# Altium footprint library FPGA_MG1.PcbLib: 42 footprints (part 2 of 3)
Each footprint in its own frame and in the unit in brackets; x right, y up, seen from the top. Pads: shape width x height; smd on the part's side, far side on the other; paste and mask are expansions set on the pad; w line width, h text height; cw(c..) or ccw(c..) is an arc to the next point about the centre after c.
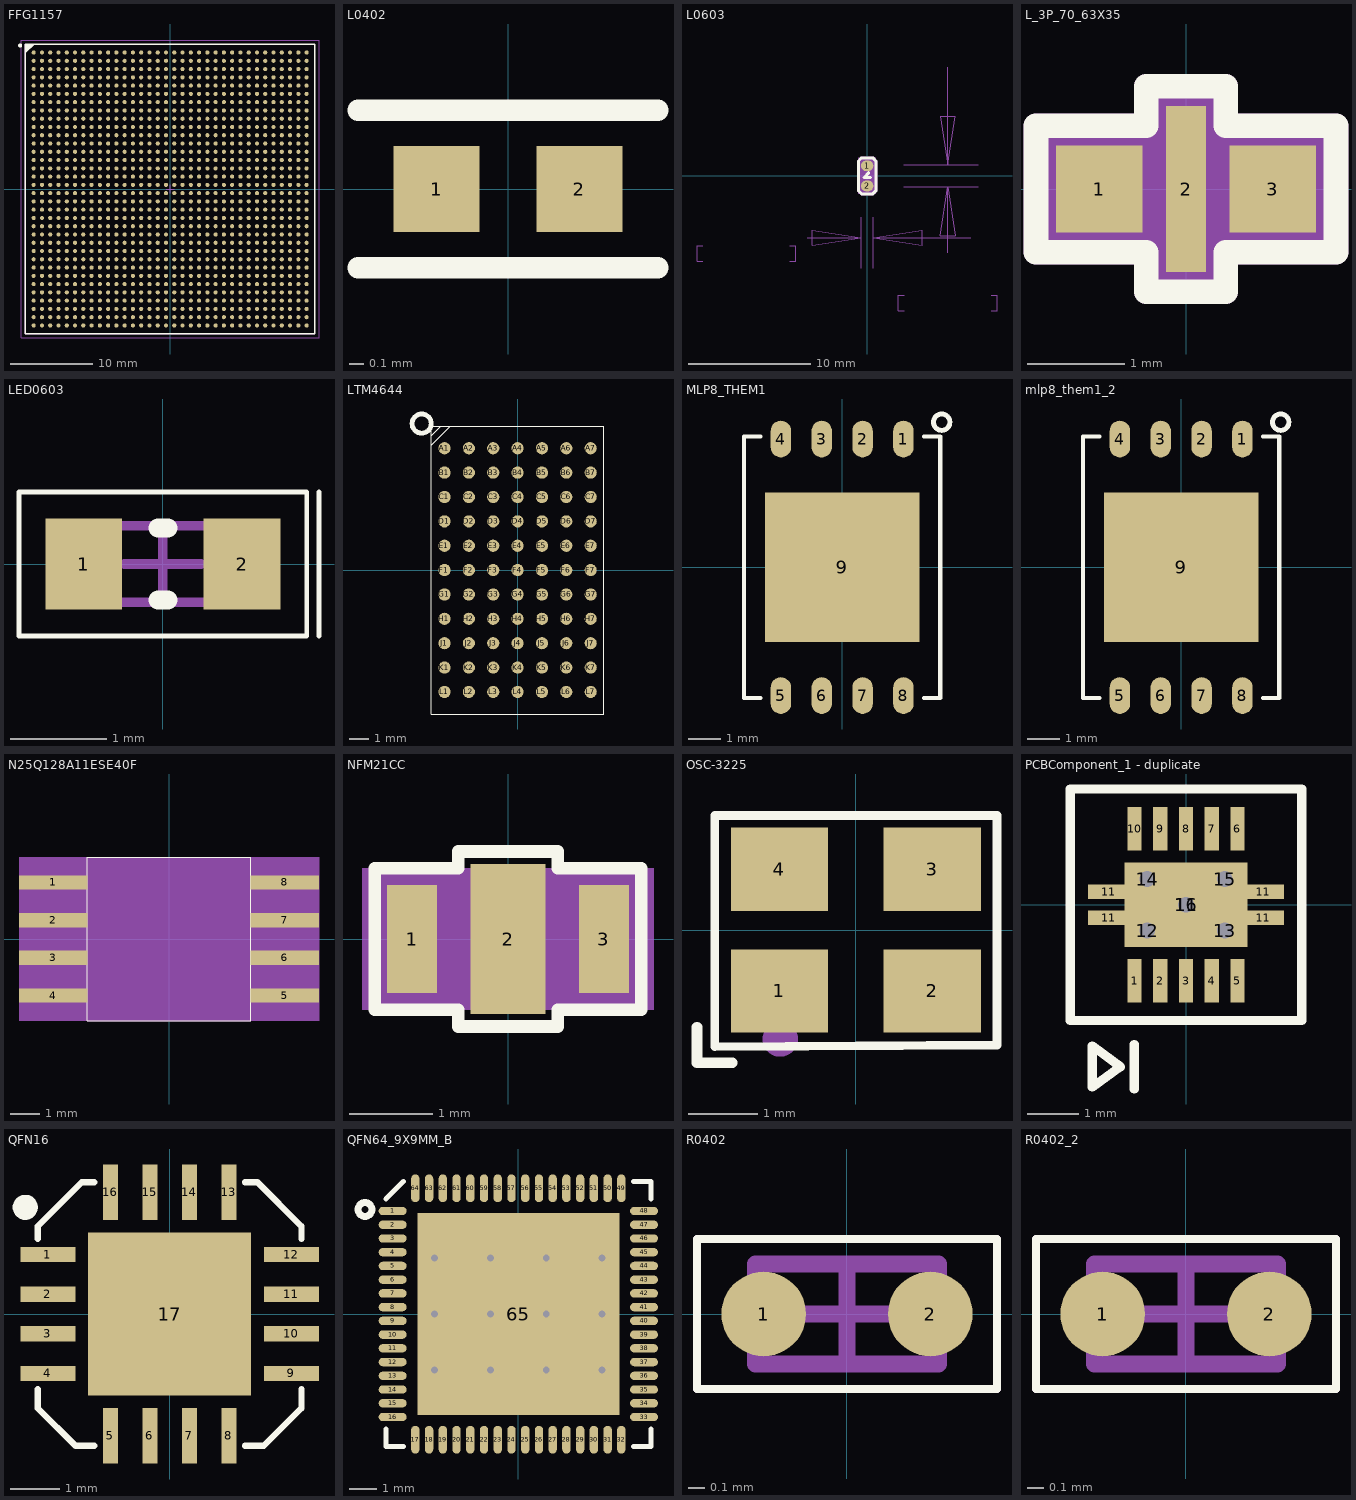
[diagram p1: the footprints below, top view; thin cyan lines are the x and y axes]

## FFG1157 [mm] "BGA, 1156-Balls, Body 35x35mm, Pitch 1.0mm"
height 3.35
pads (1156):
  round 0.5 smd: A1(-16.5,16.5) A2(-15.5,16.5) A3(-14.5,16.5) A4(-13.5,16.5) A5(-12.5,16.5) A6(-11.5,16.5) A7(-10.5,16.5) A8(-9.5,16.5) A9(-8.5,16.5) A10(-7.5,16.5) A11(-6.5,16.5) A12(-5.5,16.5) A13(-4.5,16.5) A14(-3.5,16.5) A15(-2.5,16.5) A16(-1.5,16.5) A17(-0.5,16.5) A18(0.5,16.5) A19(1.5,16.5) A20(2.5,16.5) A21(3.5,16.5) A22(4.5,16.5) A23(5.5,16.5) A24(6.5,16.5) A25(7.5,16.5) A26(8.5,16.5) A27(9.5,16.5) A28(10.5,16.5) A29(11.5,16.5) A30(12.5,16.5) A31(13.5,16.5) A32(14.5,16.5) A33(15.5,16.5) A34(16.5,16.5) AA1(-16.5,-3.5) AA2(-15.5,-3.5) AA3(-14.5,-3.5) AA4(-13.5,-3.5) AA5(-12.5,-3.5) AA6(-11.5,-3.5) AA7(-10.5,-3.5) AA8(-9.5,-3.5) AA9(-8.5,-3.5) AA10(-7.5,-3.5) AA11(-6.5,-3.5) AA12(-5.5,-3.5) AA13(-4.5,-3.5) AA14(-3.5,-3.5) AA15(-2.5,-3.5) AA16(-1.5,-3.5) AA17(-0.5,-3.5) AA18(0.5,-3.5) AA19(1.5,-3.5) AA20(2.5,-3.5) AA21(3.5,-3.5) AA22(4.5,-3.5) AA23(5.5,-3.5) AA24(6.5,-3.5) AA25(7.5,-3.5) AA26(8.5,-3.5) AA27(9.5,-3.5) AA28(10.5,-3.5) AA29(11.5,-3.5) AA30(12.5,-3.5) AA31(13.5,-3.5) AA32(14.5,-3.5) AA33(15.5,-3.5) AA34(16.5,-3.5) AB1(-16.5,-4.5) AB2(-15.5,-4.5) AB3(-14.5,-4.5) AB4(-13.5,-4.5) AB5(-12.5,-4.5) AB6(-11.5,-4.5) AB7(-10.5,-4.5) AB8(-9.5,-4.5) AB9(-8.5,-4.5) AB10(-7.5,-4.5) AB11(-6.5,-4.5) AB12(-5.5,-4.5) AB13(-4.5,-4.5) AB14(-3.5,-4.5) AB15(-2.5,-4.5) AB16(-1.5,-4.5) AB17(-0.5,-4.5) AB18(0.5,-4.5) AB19(1.5,-4.5) AB20(2.5,-4.5) AB21(3.5,-4.5) AB22(4.5,-4.5) AB23(5.5,-4.5) AB24(6.5,-4.5) AB25(7.5,-4.5) AB26(8.5,-4.5) AB27(9.5,-4.5) AB28(10.5,-4.5) AB29(11.5,-4.5) AB30(12.5,-4.5) AB31(13.5,-4.5) AB32(14.5,-4.5) AB33(15.5,-4.5) AB34(16.5,-4.5) AC1(-16.5,-5.5) AC2(-15.5,-5.5) AC3(-14.5,-5.5) AC4(-13.5,-5.5) AC5(-12.5,-5.5) AC6(-11.5,-5.5) AC7(-10.5,-5.5) AC8(-9.5,-5.5) AC9(-8.5,-5.5) AC10(-7.5,-5.5) AC11(-6.5,-5.5) AC12(-5.5,-5.5) AC13(-4.5,-5.5) AC14(-3.5,-5.5) AC15(-2.5,-5.5) AC16(-1.5,-5.5) AC17(-0.5,-5.5) AC18(0.5,-5.5) AC19(1.5,-5.5) AC20(2.5,-5.5) AC21(3.5,-5.5) AC22(4.5,-5.5) AC23(5.5,-5.5) AC24(6.5,-5.5) AC25(7.5,-5.5) AC26(8.5,-5.5) AC27(9.5,-5.5) AC28(10.5,-5.5) AC29(11.5,-5.5) AC30(12.5,-5.5) AC31(13.5,-5.5) AC32(14.5,-5.5) AC33(15.5,-5.5) AC34(16.5,-5.5) AD1(-16.5,-6.5) AD2(-15.5,-6.5) AD3(-14.5,-6.5) AD4(-13.5,-6.5) AD5(-12.5,-6.5) AD6(-11.5,-6.5) AD7(-10.5,-6.5) AD8(-9.5,-6.5) AD9(-8.5,-6.5) AD10(-7.5,-6.5) AD11(-6.5,-6.5) AD12(-5.5,-6.5) AD13(-4.5,-6.5) AD14(-3.5,-6.5) AD15(-2.5,-6.5) AD16(-1.5,-6.5) AD17(-0.5,-6.5) AD18(0.5,-6.5) AD19(1.5,-6.5) AD20(2.5,-6.5) AD21(3.5,-6.5) AD22(4.5,-6.5) AD23(5.5,-6.5) AD24(6.5,-6.5) AD25(7.5,-6.5) AD26(8.5,-6.5) AD27(9.5,-6.5) AD28(10.5,-6.5) AD29(11.5,-6.5) AD30(12.5,-6.5) AD31(13.5,-6.5) AD32(14.5,-6.5) AD33(15.5,-6.5) AD34(16.5,-6.5) AE1(-16.5,-7.5) AE2(-15.5,-7.5) AE3(-14.5,-7.5) AE4(-13.5,-7.5) AE5(-12.5,-7.5) AE6(-11.5,-7.5) AE7(-10.5,-7.5) AE8(-9.5,-7.5) AE9(-8.5,-7.5) AE10(-7.5,-7.5) AE11(-6.5,-7.5) AE12(-5.5,-7.5) AE13(-4.5,-7.5) AE14(-3.5,-7.5) AE15(-2.5,-7.5) AE16(-1.5,-7.5) AE17(-0.5,-7.5) AE18(0.5,-7.5) AE19(1.5,-7.5) AE20(2.5,-7.5) AE21(3.5,-7.5) AE22(4.5,-7.5) AE23(5.5,-7.5) AE24(6.5,-7.5) AE25(7.5,-7.5) AE26(8.5,-7.5) AE27(9.5,-7.5) AE28(10.5,-7.5) AE29(11.5,-7.5) AE30(12.5,-7.5) AE31(13.5,-7.5) AE32(14.5,-7.5) AE33(15.5,-7.5) AE34(16.5,-7.5) AF1(-16.5,-8.5) AF2(-15.5,-8.5) AF3(-14.5,-8.5) AF4(-13.5,-8.5) AF5(-12.5,-8.5) AF6(-11.5,-8.5) AF7(-10.5,-8.5) AF8(-9.5,-8.5) AF9(-8.5,-8.5) AF10(-7.5,-8.5) AF11(-6.5,-8.5) AF12(-5.5,-8.5) AF13(-4.5,-8.5) AF14(-3.5,-8.5) AF15(-2.5,-8.5) AF16(-1.5,-8.5) AF17(-0.5,-8.5) AF18(0.5,-8.5) AF19(1.5,-8.5) AF20(2.5,-8.5) AF21(3.5,-8.5) AF22(4.5,-8.5) AF23(5.5,-8.5) AF24(6.5,-8.5) AF25(7.5,-8.5) AF26(8.5,-8.5) AF27(9.5,-8.5) AF28(10.5,-8.5) AF29(11.5,-8.5) AF30(12.5,-8.5) AF31(13.5,-8.5) AF32(14.5,-8.5) AF33(15.5,-8.5) AF34(16.5,-8.5) AG1(-16.5,-9.5) AG2(-15.5,-9.5) AG3(-14.5,-9.5) AG4(-13.5,-9.5) AG5(-12.5,-9.5) AG6(-11.5,-9.5) AG7(-10.5,-9.5) AG8(-9.5,-9.5) AG9(-8.5,-9.5) AG10(-7.5,-9.5) AG11(-6.5,-9.5) AG12(-5.5,-9.5) AG13(-4.5,-9.5) AG14(-3.5,-9.5) AG15(-2.5,-9.5) AG16(-1.5,-9.5) AG17(-0.5,-9.5) AG18(0.5,-9.5) AG19(1.5,-9.5) AG20(2.5,-9.5) AG21(3.5,-9.5) AG22(4.5,-9.5) AG23(5.5,-9.5) AG24(6.5,-9.5) AG25(7.5,-9.5) AG26(8.5,-9.5) AG27(9.5,-9.5) AG28(10.5,-9.5) AG29(11.5,-9.5) AG30(12.5,-9.5) AG31(13.5,-9.5) AG32(14.5,-9.5) AG33(15.5,-9.5) AG34(16.5,-9.5) AH1(-16.5,-10.5) AH2(-15.5,-10.5) AH3(-14.5,-10.5) AH4(-13.5,-10.5) AH5(-12.5,-10.5) AH6(-11.5,-10.5) AH7(-10.5,-10.5) AH8(-9.5,-10.5) AH9(-8.5,-10.5) AH10(-7.5,-10.5) AH11(-6.5,-10.5) AH12(-5.5,-10.5) AH13(-4.5,-10.5) AH14(-3.5,-10.5) AH15(-2.5,-10.5) AH16(-1.5,-10.5) AH17(-0.5,-10.5) AH18(0.5,-10.5) AH19(1.5,-10.5) AH20(2.5,-10.5) AH21(3.5,-10.5) AH22(4.5,-10.5) AH23(5.5,-10.5) AH24(6.5,-10.5) AH25(7.5,-10.5) AH26(8.5,-10.5) AH27(9.5,-10.5) AH28(10.5,-10.5) AH29(11.5,-10.5) AH30(12.5,-10.5) AH31(13.5,-10.5) AH32(14.5,-10.5) AH33(15.5,-10.5) AH34(16.5,-10.5) AJ1(-16.5,-11.5) AJ2(-15.5,-11.5) AJ3(-14.5,-11.5) AJ4(-13.5,-11.5) AJ5(-12.5,-11.5) AJ6(-11.5,-11.5) AJ7(-10.5,-11.5) AJ8(-9.5,-11.5) AJ9(-8.5,-11.5) AJ10(-7.5,-11.5) AJ11(-6.5,-11.5) AJ12(-5.5,-11.5) AJ13(-4.5,-11.5) AJ14(-3.5,-11.5) AJ15(-2.5,-11.5) AJ16(-1.5,-11.5) AJ17(-0.5,-11.5) AJ18(0.5,-11.5) AJ19(1.5,-11.5) AJ20(2.5,-11.5) AJ21(3.5,-11.5) AJ22(4.5,-11.5) AJ23(5.5,-11.5) AJ24(6.5,-11.5) AJ25(7.5,-11.5) AJ26(8.5,-11.5) AJ27(9.5,-11.5) AJ28(10.5,-11.5) AJ29(11.5,-11.5) AJ30(12.5,-11.5) AJ31(13.5,-11.5) AJ32(14.5,-11.5) AJ33(15.5,-11.5) AJ34(16.5,-11.5) AK1(-16.5,-12.5) AK2(-15.5,-12.5) AK3(-14.5,-12.5) AK4(-13.5,-12.5) AK5(-12.5,-12.5) AK6(-11.5,-12.5) AK7(-10.5,-12.5) AK8(-9.5,-12.5) AK9(-8.5,-12.5) AK10(-7.5,-12.5) AK11(-6.5,-12.5) AK12(-5.5,-12.5) AK13(-4.5,-12.5) AK14(-3.5,-12.5) AK15(-2.5,-12.5) AK16(-1.5,-12.5) AK17(-0.5,-12.5) AK18(0.5,-12.5) AK19(1.5,-12.5) AK20(2.5,-12.5) AK21(3.5,-12.5) AK22(4.5,-12.5) AK23(5.5,-12.5) AK24(6.5,-12.5) AK25(7.5,-12.5) AK26(8.5,-12.5) AK27(9.5,-12.5) AK28(10.5,-12.5) AK29(11.5,-12.5) AK30(12.5,-12.5) AK31(13.5,-12.5) AK32(14.5,-12.5) AK33(15.5,-12.5) AK34(16.5,-12.5) AL1(-16.5,-13.5) AL2(-15.5,-13.5) AL3(-14.5,-13.5) AL4(-13.5,-13.5) AL5(-12.5,-13.5) AL6(-11.5,-13.5) AL7(-10.5,-13.5) AL8(-9.5,-13.5) AL9(-8.5,-13.5) AL10(-7.5,-13.5) AL11(-6.5,-13.5) AL12(-5.5,-13.5) AL13(-4.5,-13.5) AL14(-3.5,-13.5) AL15(-2.5,-13.5) AL16(-1.5,-13.5) AL17(-0.5,-13.5) AL18(0.5,-13.5) AL19(1.5,-13.5) AL20(2.5,-13.5) AL21(3.5,-13.5) AL22(4.5,-13.5) AL23(5.5,-13.5) AL24(6.5,-13.5) AL25(7.5,-13.5) AL26(8.5,-13.5) AL27(9.5,-13.5) AL28(10.5,-13.5) AL29(11.5,-13.5) AL30(12.5,-13.5) AL31(13.5,-13.5) AL32(14.5,-13.5) AL33(15.5,-13.5) AL34(16.5,-13.5) AM1(-16.5,-14.5) AM2(-15.5,-14.5) AM3(-14.5,-14.5) AM4(-13.5,-14.5) AM5(-12.5,-14.5) AM6(-11.5,-14.5) AM7(-10.5,-14.5) AM8(-9.5,-14.5) AM9(-8.5,-14.5) AM10(-7.5,-14.5) AM11(-6.5,-14.5) AM12(-5.5,-14.5) AM13(-4.5,-14.5) AM14(-3.5,-14.5) AM15(-2.5,-14.5) AM16(-1.5,-14.5) AM17(-0.5,-14.5) AM18(0.5,-14.5) AM19(1.5,-14.5) AM20(2.5,-14.5) AM21(3.5,-14.5) AM22(4.5,-14.5) AM23(5.5,-14.5) AM24(6.5,-14.5) AM25(7.5,-14.5) AM26(8.5,-14.5) AM27(9.5,-14.5) AM28(10.5,-14.5) AM29(11.5,-14.5) AM30(12.5,-14.5) AM31(13.5,-14.5) AM32(14.5,-14.5) AM33(15.5,-14.5) AM34(16.5,-14.5) AN1(-16.5,-15.5) AN2(-15.5,-15.5) AN3(-14.5,-15.5) AN4(-13.5,-15.5) AN5(-12.5,-15.5) AN6(-11.5,-15.5) AN7(-10.5,-15.5) AN8(-9.5,-15.5) AN9(-8.5,-15.5) AN10(-7.5,-15.5) AN11(-6.5,-15.5) AN12(-5.5,-15.5) AN13(-4.5,-15.5) AN14(-3.5,-15.5) AN15(-2.5,-15.5) AN16(-1.5,-15.5) AN17(-0.5,-15.5) AN18(0.5,-15.5) AN19(1.5,-15.5) AN20(2.5,-15.5) AN21(3.5,-15.5) AN22(4.5,-15.5) AN23(5.5,-15.5) AN24(6.5,-15.5) AN25(7.5,-15.5) AN26(8.5,-15.5) AN27(9.5,-15.5) AN28(10.5,-15.5) AN29(11.5,-15.5) AN30(12.5,-15.5) AN31(13.5,-15.5) AN32(14.5,-15.5) AN33(15.5,-15.5) AN34(16.5,-15.5) AP1(-16.5,-16.5) AP2(-15.5,-16.5) AP3(-14.5,-16.5) AP4(-13.5,-16.5) AP5(-12.5,-16.5) AP6(-11.5,-16.5) AP7(-10.5,-16.5) AP8(-9.5,-16.5) AP9(-8.5,-16.5) AP10(-7.5,-16.5) AP11(-6.5,-16.5) AP12(-5.5,-16.5) AP13(-4.5,-16.5) AP14(-3.5,-16.5) AP15(-2.5,-16.5) AP16(-1.5,-16.5) AP17(-0.5,-16.5) AP18(0.5,-16.5) AP19(1.5,-16.5) AP20(2.5,-16.5) AP21(3.5,-16.5) AP22(4.5,-16.5) AP23(5.5,-16.5) AP24(6.5,-16.5) AP25(7.5,-16.5) AP26(8.5,-16.5) AP27(9.5,-16.5) AP28(10.5,-16.5) AP29(11.5,-16.5) AP30(12.5,-16.5) AP31(13.5,-16.5) AP32(14.5,-16.5) AP33(15.5,-16.5) AP34(16.5,-16.5) B1(-16.5,15.5) B2(-15.5,15.5) B3(-14.5,15.5) B4(-13.5,15.5) B5(-12.5,15.5) B6(-11.5,15.5) B7(-10.5,15.5) B8(-9.5,15.5) B9(-8.5,15.5) B10(-7.5,15.5) B11(-6.5,15.5) B12(-5.5,15.5) B13(-4.5,15.5) B14(-3.5,15.5) B15(-2.5,15.5) B16(-1.5,15.5) B17(-0.5,15.5) B18(0.5,15.5) B19(1.5,15.5) B20(2.5,15.5) B21(3.5,15.5) B22(4.5,15.5) B23(5.5,15.5) B24(6.5,15.5) B25(7.5,15.5) B26(8.5,15.5) B27(9.5,15.5) B28(10.5,15.5) B29(11.5,15.5) B30(12.5,15.5) B31(13.5,15.5) B32(14.5,15.5) B33(15.5,15.5) B34(16.5,15.5) C1(-16.5,14.5) C2(-15.5,14.5) C3(-14.5,14.5) C4(-13.5,14.5) C5(-12.5,14.5) C6(-11.5,14.5) C7(-10.5,14.5) C8(-9.5,14.5) C9(-8.5,14.5) C10(-7.5,14.5) C11(-6.5,14.5) C12(-5.5,14.5) C13(-4.5,14.5) C14(-3.5,14.5) C15(-2.5,14.5) C16(-1.5,14.5) C17(-0.5,14.5) C18(0.5,14.5) C19(1.5,14.5) C20(2.5,14.5) C21(3.5,14.5) C22(4.5,14.5) C23(5.5,14.5) C24(6.5,14.5) C25(7.5,14.5) C26(8.5,14.5) C27(9.5,14.5) C28(10.5,14.5) C29(11.5,14.5) C30(12.5,14.5) C31(13.5,14.5) C32(14.5,14.5) C33(15.5,14.5) C34(16.5,14.5) D1(-16.5,13.5) D2(-15.5,13.5) D3(-14.5,13.5) D4(-13.5,13.5) D5(-12.5,13.5) D6(-11.5,13.5) D7(-10.5,13.5) D8(-9.5,13.5) D9(-8.5,13.5) D10(-7.5,13.5) D11(-6.5,13.5) D12(-5.5,13.5) D13(-4.5,13.5) D14(-3.5,13.5) D15(-2.5,13.5) D16(-1.5,13.5) D17(-0.5,13.5) D18(0.5,13.5) D19(1.5,13.5) D20(2.5,13.5) D21(3.5,13.5) D22(4.5,13.5) D23(5.5,13.5) D24(6.5,13.5) D25(7.5,13.5) D26(8.5,13.5) D27(9.5,13.5) D28(10.5,13.5) D29(11.5,13.5) D30(12.5,13.5) D31(13.5,13.5) D32(14.5,13.5) D33(15.5,13.5) D34(16.5,13.5) E1(-16.5,12.5) E2(-15.5,12.5) E3(-14.5,12.5) E4(-13.5,12.5) E5(-12.5,12.5) E6(-11.5,12.5) E7(-10.5,12.5) E8(-9.5,12.5) E9(-8.5,12.5) E10(-7.5,12.5) E11(-6.5,12.5) E12(-5.5,12.5) E13(-4.5,12.5) E14(-3.5,12.5) E15(-2.5,12.5) E16(-1.5,12.5) E17(-0.5,12.5) E18(0.5,12.5) E19(1.5,12.5) E20(2.5,12.5) E21(3.5,12.5) E22(4.5,12.5) E23(5.5,12.5) E24(6.5,12.5) E25(7.5,12.5) E26(8.5,12.5) E27(9.5,12.5) E28(10.5,12.5) E29(11.5,12.5) E30(12.5,12.5) E31(13.5,12.5) E32(14.5,12.5) E33(15.5,12.5) E34(16.5,12.5) F1(-16.5,11.5) F2(-15.5,11.5) F3(-14.5,11.5) F4(-13.5,11.5) F5(-12.5,11.5) F6(-11.5,11.5) F7(-10.5,11.5) F8(-9.5,11.5) F9(-8.5,11.5) F10(-7.5,11.5) F11(-6.5,11.5) F12(-5.5,11.5) F13(-4.5,11.5) F14(-3.5,11.5) F15(-2.5,11.5) F16(-1.5,11.5) F17(-0.5,11.5) F18(0.5,11.5) F19(1.5,11.5) F20(2.5,11.5) F21(3.5,11.5) F22(4.5,11.5) F23(5.5,11.5) F24(6.5,11.5) F25(7.5,11.5) F26(8.5,11.5) F27(9.5,11.5) F28(10.5,11.5) F29(11.5,11.5) F30(12.5,11.5) F31(13.5,11.5) F32(14.5,11.5) F33(15.5,11.5) F34(16.5,11.5) G1(-16.5,10.5) G2(-15.5,10.5) G3(-14.5,10.5) G4(-13.5,10.5) G5(-12.5,10.5) G6(-11.5,10.5) G7(-10.5,10.5) G8(-9.5,10.5) G9(-8.5,10.5) G10(-7.5,10.5) G11(-6.5,10.5) G12(-5.5,10.5) G13(-4.5,10.5) G14(-3.5,10.5) G15(-2.5,10.5) G16(-1.5,10.5) G17(-0.5,10.5) G18(0.5,10.5) G19(1.5,10.5) G20(2.5,10.5) G21(3.5,10.5) G22(4.5,10.5) G23(5.5,10.5) G24(6.5,10.5) G25(7.5,10.5) G26(8.5,10.5) G27(9.5,10.5) G28(10.5,10.5) G29(11.5,10.5) G30(12.5,10.5) G31(13.5,10.5) G32(14.5,10.5) G33(15.5,10.5) G34(16.5,10.5) H1(-16.5,9.5) H2(-15.5,9.5) H3(-14.5,9.5) H4(-13.5,9.5) H5(-12.5,9.5) H6(-11.5,9.5) H7(-10.5,9.5) H8(-9.5,9.5) H9(-8.5,9.5) H10(-7.5,9.5) H11(-6.5,9.5) H12(-5.5,9.5) H13(-4.5,9.5) H14(-3.5,9.5) H15(-2.5,9.5) H16(-1.5,9.5) H17(-0.5,9.5) H18(0.5,9.5) H19(1.5,9.5) H20(2.5,9.5) H21(3.5,9.5) H22(4.5,9.5) H23(5.5,9.5) H24(6.5,9.5) H25(7.5,9.5) H26(8.5,9.5) H27(9.5,9.5) H28(10.5,9.5) H29(11.5,9.5) H30(12.5,9.5) H31(13.5,9.5) H32(14.5,9.5) H33(15.5,9.5) H34(16.5,9.5) J1(-16.5,8.5) J2(-15.5,8.5) J3(-14.5,8.5) J4(-13.5,8.5) J5(-12.5,8.5) J6(-11.5,8.5) J7(-10.5,8.5) J8(-9.5,8.5) J9(-8.5,8.5) J10(-7.5,8.5) J11(-6.5,8.5) J12(-5.5,8.5) J13(-4.5,8.5) J14(-3.5,8.5) J15(-2.5,8.5) J16(-1.5,8.5) J17(-0.5,8.5) J18(0.5,8.5) J19(1.5,8.5) J20(2.5,8.5) J21(3.5,8.5) J22(4.5,8.5) J23(5.5,8.5) J24(6.5,8.5) J25(7.5,8.5) J26(8.5,8.5) J27(9.5,8.5) J28(10.5,8.5) J29(11.5,8.5) J30(12.5,8.5) J31(13.5,8.5) J32(14.5,8.5) J33(15.5,8.5) J34(16.5,8.5) K1(-16.5,7.5) K2(-15.5,7.5) K3(-14.5,7.5) K4(-13.5,7.5) K5(-12.5,7.5) K6(-11.5,7.5) K7(-10.5,7.5) K8(-9.5,7.5) K9(-8.5,7.5) K10(-7.5,7.5) K11(-6.5,7.5) K12(-5.5,7.5) K13(-4.5,7.5) K14(-3.5,7.5) K15(-2.5,7.5) K16(-1.5,7.5) K17(-0.5,7.5) K18(0.5,7.5) K19(1.5,7.5) K20(2.5,7.5) K21(3.5,7.5) K22(4.5,7.5) K23(5.5,7.5) K24(6.5,7.5) K25(7.5,7.5) K26(8.5,7.5) K27(9.5,7.5) K28(10.5,7.5) K29(11.5,7.5) K30(12.5,7.5) K31(13.5,7.5) K32(14.5,7.5) K33(15.5,7.5) K34(16.5,7.5) L1(-16.5,6.5) L2(-15.5,6.5) L3(-14.5,6.5) L4(-13.5,6.5) L5(-12.5,6.5) L6(-11.5,6.5) L7(-10.5,6.5) L8(-9.5,6.5) L9(-8.5,6.5) L10(-7.5,6.5) L11(-6.5,6.5) L12(-5.5,6.5) L13(-4.5,6.5) L14(-3.5,6.5) L15(-2.5,6.5) L16(-1.5,6.5) L17(-0.5,6.5) L18(0.5,6.5) L19(1.5,6.5) L20(2.5,6.5) L21(3.5,6.5) L22(4.5,6.5) L23(5.5,6.5) L24(6.5,6.5) L25(7.5,6.5) L26(8.5,6.5) L27(9.5,6.5) L28(10.5,6.5) L29(11.5,6.5) L30(12.5,6.5) L31(13.5,6.5) L32(14.5,6.5) L33(15.5,6.5) L34(16.5,6.5) M1(-16.5,5.5) M2(-15.5,5.5) M3(-14.5,5.5) M4(-13.5,5.5) M5(-12.5,5.5) M6(-11.5,5.5) M7(-10.5,5.5) M8(-9.5,5.5) M9(-8.5,5.5) M10(-7.5,5.5) M11(-6.5,5.5) M12(-5.5,5.5) M13(-4.5,5.5) M14(-3.5,5.5) M15(-2.5,5.5) M16(-1.5,5.5) M17(-0.5,5.5) M18(0.5,5.5) M19(1.5,5.5) M20(2.5,5.5) M21(3.5,5.5) M22(4.5,5.5) M23(5.5,5.5) M24(6.5,5.5) M25(7.5,5.5) M26(8.5,5.5) M27(9.5,5.5) M28(10.5,5.5) M29(11.5,5.5) M30(12.5,5.5) M31(13.5,5.5) M32(14.5,5.5) M33(15.5,5.5) M34(16.5,5.5) N1(-16.5,4.5) N2(-15.5,4.5) N3(-14.5,4.5) N4(-13.5,4.5) N5(-12.5,4.5) N6(-11.5,4.5) N7(-10.5,4.5) N8(-9.5,4.5) N9(-8.5,4.5) N10(-7.5,4.5) N11(-6.5,4.5) N12(-5.5,4.5) N13(-4.5,4.5) N14(-3.5,4.5) N15(-2.5,4.5) N16(-1.5,4.5) N17(-0.5,4.5) N18(0.5,4.5) N19(1.5,4.5) N20(2.5,4.5) N21(3.5,4.5) N22(4.5,4.5) N23(5.5,4.5) N24(6.5,4.5) N25(7.5,4.5) N26(8.5,4.5) N27(9.5,4.5) N28(10.5,4.5) N29(11.5,4.5) N30(12.5,4.5) N31(13.5,4.5) N32(14.5,4.5) N33(15.5,4.5) N34(16.5,4.5) P1(-16.5,3.5) P2(-15.5,3.5) P3(-14.5,3.5) P4(-13.5,3.5) P5(-12.5,3.5) P6(-11.5,3.5) P7(-10.5,3.5) P8(-9.5,3.5) P9(-8.5,3.5) P10(-7.5,3.5) P11(-6.5,3.5) P12(-5.5,3.5) P13(-4.5,3.5) P14(-3.5,3.5) P15(-2.5,3.5) P16(-1.5,3.5) P17(-0.5,3.5) P18(0.5,3.5) P19(1.5,3.5) P20(2.5,3.5) P21(3.5,3.5) P22(4.5,3.5) P23(5.5,3.5) P24(6.5,3.5) P25(7.5,3.5) P26(8.5,3.5) P27(9.5,3.5) P28(10.5,3.5) P29(11.5,3.5) P30(12.5,3.5) P31(13.5,3.5) P32(14.5,3.5) P33(15.5,3.5) P34(16.5,3.5) R1(-16.5,2.5) R2(-15.5,2.5) R3(-14.5,2.5) R4(-13.5,2.5) R5(-12.5,2.5) R6(-11.5,2.5) R7(-10.5,2.5) R8(-9.5,2.5) R9(-8.5,2.5) R10(-7.5,2.5) R11(-6.5,2.5) R12(-5.5,2.5) R13(-4.5,2.5) R14(-3.5,2.5) R15(-2.5,2.5) R16(-1.5,2.5) R17(-0.5,2.5) R18(0.5,2.5) R19(1.5,2.5) R20(2.5,2.5) R21(3.5,2.5) R22(4.5,2.5) R23(5.5,2.5) R24(6.5,2.5) R25(7.5,2.5) R26(8.5,2.5) R27(9.5,2.5) R28(10.5,2.5) R29(11.5,2.5) R30(12.5,2.5) R31(13.5,2.5) R32(14.5,2.5) R33(15.5,2.5) R34(16.5,2.5) T1(-16.5,1.5) T2(-15.5,1.5) T3(-14.5,1.5) T4(-13.5,1.5) T5(-12.5,1.5) T6(-11.5,1.5) T7(-10.5,1.5) T8(-9.5,1.5) T9(-8.5,1.5) T10(-7.5,1.5) T11(-6.5,1.5) T12(-5.5,1.5) T13(-4.5,1.5) T14(-3.5,1.5) T15(-2.5,1.5) T16(-1.5,1.5) T17(-0.5,1.5) T18(0.5,1.5) T19(1.5,1.5) T20(2.5,1.5) T21(3.5,1.5) T22(4.5,1.5) T23(5.5,1.5) T24(6.5,1.5) T25(7.5,1.5) T26(8.5,1.5) T27(9.5,1.5) T28(10.5,1.5) T29(11.5,1.5) T30(12.5,1.5) T31(13.5,1.5) T32(14.5,1.5) T33(15.5,1.5) T34(16.5,1.5) U1(-16.5,0.5) U2(-15.5,0.5) U3(-14.5,0.5) U4(-13.5,0.5) U5(-12.5,0.5) U6(-11.5,0.5) U7(-10.5,0.5) U8(-9.5,0.5) U9(-8.5,0.5) U10(-7.5,0.5) U11(-6.5,0.5) U12(-5.5,0.5) U13(-4.5,0.5) U14(-3.5,0.5) U15(-2.5,0.5) U16(-1.5,0.5) U17(-0.5,0.5) U18(0.5,0.5) U19(1.5,0.5) U20(2.5,0.5) U21(3.5,0.5) U22(4.5,0.5) U23(5.5,0.5) U24(6.5,0.5) U25(7.5,0.5) U26(8.5,0.5) U27(9.5,0.5) U28(10.5,0.5) U29(11.5,0.5) U30(12.5,0.5) U31(13.5,0.5) U32(14.5,0.5) U33(15.5,0.5) U34(16.5,0.5) V1(-16.5,-0.5) V2(-15.5,-0.5) V3(-14.5,-0.5) V4(-13.5,-0.5) V5(-12.5,-0.5) V6(-11.5,-0.5) V7(-10.5,-0.5) V8(-9.5,-0.5) V9(-8.5,-0.5) V10(-7.5,-0.5) V11(-6.5,-0.5) V12(-5.5,-0.5) V13(-4.5,-0.5) V14(-3.5,-0.5) V15(-2.5,-0.5) V16(-1.5,-0.5) V17(-0.5,-0.5) V18(0.5,-0.5) V19(1.5,-0.5) V20(2.5,-0.5) V21(3.5,-0.5) V22(4.5,-0.5) V23(5.5,-0.5) V24(6.5,-0.5) V25(7.5,-0.5) V26(8.5,-0.5) V27(9.5,-0.5) V28(10.5,-0.5) V29(11.5,-0.5) V30(12.5,-0.5) V31(13.5,-0.5) V32(14.5,-0.5) V33(15.5,-0.5) V34(16.5,-0.5) W1(-16.5,-1.5) W2(-15.5,-1.5) W3(-14.5,-1.5) W4(-13.5,-1.5) W5(-12.5,-1.5) W6(-11.5,-1.5) W7(-10.5,-1.5) W8(-9.5,-1.5) W9(-8.5,-1.5) W10(-7.5,-1.5) W11(-6.5,-1.5) W12(-5.5,-1.5) W13(-4.5,-1.5) W14(-3.5,-1.5) W15(-2.5,-1.5) W16(-1.5,-1.5) W17(-0.5,-1.5) W18(0.5,-1.5) W19(1.5,-1.5) W20(2.5,-1.5) W21(3.5,-1.5) W22(4.5,-1.5) W23(5.5,-1.5) W24(6.5,-1.5) W25(7.5,-1.5) W26(8.5,-1.5) W27(9.5,-1.5) W28(10.5,-1.5) W29(11.5,-1.5) W30(12.5,-1.5) W31(13.5,-1.5) W32(14.5,-1.5) W33(15.5,-1.5) W34(16.5,-1.5) Y1(-16.5,-2.5) Y2(-15.5,-2.5) Y3(-14.5,-2.5) Y4(-13.5,-2.5) Y5(-12.5,-2.5) Y6(-11.5,-2.5) Y7(-10.5,-2.5) Y8(-9.5,-2.5) Y9(-8.5,-2.5) Y10(-7.5,-2.5) Y11(-6.5,-2.5) Y12(-5.5,-2.5) Y13(-4.5,-2.5) Y14(-3.5,-2.5) Y15(-2.5,-2.5) Y16(-1.5,-2.5) Y17(-0.5,-2.5) Y18(0.5,-2.5) Y19(1.5,-2.5) Y20(2.5,-2.5) Y21(3.5,-2.5) Y22(4.5,-2.5) Y23(5.5,-2.5) Y24(6.5,-2.5) Y25(7.5,-2.5) Y26(8.5,-2.5) Y27(9.5,-2.5) Y28(10.5,-2.5) Y29(11.5,-2.5) Y30(12.5,-2.5) Y31(13.5,-2.5) Y32(14.5,-2.5) Y33(15.5,-2.5) Y34(16.5,-2.5)
Top Overlay:
  circle w0.25: c-18.15,17.35 r0.125
  region: -16.5,17.5 -17.5,16.5 -17.5,17.5
  lines w0.2: -17.5,16.5 -16.5,17.5 ; -17.5,-17.5 -17.5,17.5 17.5,17.5 17.5,-17.5 -17.5,-17.5
Mechanical 13:
  lines w0.1: -17.5,-17.5 -17.5,17.5 17.5,17.5 17.5,-17.5 -17.5,-17.5
Mechanical 15:
  lines w0.05: -18,-18 -18,18 18,18 18,-18 -18,-18
  lines w0.1: -0.5,0 0.5,0 ; 0,-0.5 0,0.5
3D body: height 3.35, standoff 0.4, extent -17.5,-17.5 17.5,17.5

## L0402 [mm]
pads (2):
  rect 0.6x0.6 smd: 1(-0.5,0) 2(0.5,0)
Top Overlay:
  lines w0.15: -1.05,-0.55 -0.2,-0.55 0.2,-0.55 1.05,-0.55 ; -1.05,0.55 -0.2,0.55 0.2,0.55 1.05,0.55

## L0603 [mil] "L0603"
pads (2):
  oval 40x35 smd: 1(0,32.5) 2(0,-32.5)
Top Overlay:
  lines w10: 5,10 -10,-5 10,-5 ; -28,-48 -18,-58 18,-58 28,-48 28,48 18,58 -18,58 -28,48 -28,-48
Mechanical 5:
  lines w10: -25,-51.01 -28,-48 -28,48 -25,51.01 ; -21,-54.99 -18,-58 18,-58 21,-54.99 ; -21,54.99 -18,58 18,58 21,54.99 ; 5,10 -10,-5 10,-5 ; 25,-51.01 28,-48 28,48 25,51.01
  text "FB11" at 55.83,99.95 h25
Mechanical 13:
  lines w1: -530,-275 -549,-275 -549,-225 -530,-225 ; -250,-275 -231,-275 -231,-225 -250,-225 ; -193.5,-200 -19.7,-200 ; -19.7,-298.4 -19.7,-133.9 ; 19.7,-298.4 19.7,-133.9 ; 118.1,-35.4 358.4,-35.4 ; 118.1,35.4 358.4,35.4 ; 120,-435 101,-435 101,-385 120,-385 ; 260,-247.5 260,-35.4 ; 260,350.4 260,35.4 ; 334.6,-200 19.7,-200 ; 400,-435 419,-435 419,-385 400,-385 ; -19.7,-200 -177.2,-175.4 -177.2,-224.6 -19.7,-200 ; 19.7,-200 177.2,-224.6 177.2,-175.4 19.7,-200 ; 260,-35.4 235.4,-192.9 284.6,-192.9 260,-35.4 ; 260,35.4 284.6,192.9 235.4,192.9 260,35.4
  text "1.8" at 190,-335 h36
  text "70.86" at 139,-435 h36
  text "1" at -409,-175 h36
  text "39.36" at -511,-275 h36
Mechanical 14:
  text "2" at 11.2,-32.5 h28
  text "1" at 11.2,32.5 h28
Mechanical 16:
  region: -19.7,-35.4 19.7,-35.4 19.7,35.4 -19.7,35.4
  pour cut-out: -28,-58 28,-58 28,58 -28,58
  lines w1: -19.7,-35.4 19.7,-35.4 19.7,35.4 -19.7,35.4 -19.7,-35.4
Mechanical 17:
  text ".Designator" at 57.6,12 h36
3D body: height 150, standoff 0, extent -19.7,-35.4 19.7,35.4

## L_3P_70_63X35 [mil] "L_3P_70_63X35"
pads (3):
  rect 35x35 smd: 1(-35.04,0) 3(35.04,0)
  rect 16x67 smd: 2(0,0)
Top Overlay:
  lines w10: -60.54,-25.5 -16,-25.5 -16,-41.5 16,-41.5 16,-25.5 60.54,-25.5 60.54,25.5 16,25.5 16,41.5 -16,41.5 -16,25.5 -60.54,25.5 -60.54,-25.5
Mechanical 5:
  lines w10: -60.54,-25.5 -60.54,25.5 -16,25.5 -16,41.5 16,41.5 16,25.5 60.54,25.5 60.54,-25.5 16,-25.5 16,-41.5 -16,-41.5 -16,-25.5 -60.54,-25.5
  text "B4" at 94.17,-38.34 h25
Mechanical 14:
  text "3" at 35.04,-11.2 h28
  text "1" at -35.04,-11.2 h28
  text "2" at 0,-11.2 h28
Mechanical 16:
  pour cut-out: -16,25.5 -16,41.5 16,41.5 16,25.5 60.54,25.5 60.54,-25.5 16,-25.5 16,-41.5 -16,-41.5 -16,-25.5 -60.54,-25.5 -60.54,25.5
  region: -31.5,-15.75 31.5,-15.75 31.5,15.75 -31.5,15.75
  lines w1: -31.5,-15.75 31.5,-15.75 31.5,15.75 -31.5,15.75 -31.5,-15.75
3D body: height 150, standoff 0, extent -31.5,-15.75 31.5,15.75

## LED0603 [mm]
height 1.2
pads (2):
  rect 0.8x0.95 smd: 1(-0.825,0) 2(0.825,0)
Top Overlay:
  lines w0.05: 1.627,-0.75 1.627,0.75 ; -1.5,-0.75 1.5,-0.75 1.5,0.75 -1.5,0.75 -1.5,-0.75
  lines w0.2: -0.05,-0.375 0.05,-0.375 ; -0.05,0.375 0.05,0.375
Mechanical 13:
  lines w0.1: -0.8,-0.4 0.8,-0.4 0.8,0.4 -0.8,0.4 -0.8,-0.4
Mechanical 15:
  lines w0.1: -0.4,0 0.4,0 ; 0,-0.4 0,0.4
3D body "LED 0603-R.STEP": height 0.47, standoff 0, extent -0.8,-0.401 0.8,0.401

## LTM4644 [mm] "LTM4644"
pads (77):
  round 0.635 smd: A1(-3.81,6.35) A2(-2.54,6.35) A3(-1.27,6.35) A4(0,6.35) A5(1.27,6.35) A6(2.54,6.35) A7(3.81,6.35) B1(-3.81,5.08) B2(-2.54,5.08) B3(-1.27,5.08) B4(0,5.08) B5(1.27,5.08) B6(2.54,5.08) B7(3.81,5.08) C1(-3.81,3.81) C2(-2.54,3.81) C3(-1.27,3.81) C4(0,3.81) C5(1.27,3.81) C6(2.54,3.81) C7(3.81,3.81) D1(-3.81,2.54) D2(-2.54,2.54) D3(-1.27,2.54) D4(0,2.54) D5(1.27,2.54) D6(2.54,2.54) D7(3.81,2.54) E1(-3.81,1.27) E2(-2.54,1.27) E3(-1.27,1.27) E4(0,1.27) E5(1.27,1.27) E6(2.54,1.27) E7(3.81,1.27) F1(-3.81,0) F2(-2.54,0) F3(-1.27,0) F4(0,0) F5(1.27,0) F6(2.54,0) F7(3.81,0) G1(-3.81,-1.27) G2(-2.54,-1.27) G3(-1.27,-1.27) G4(0,-1.27) G5(1.27,-1.27) G6(2.54,-1.27) G7(3.81,-1.27) H1(-3.81,-2.54) H2(-2.54,-2.54) H3(-1.27,-2.54) H4(0,-2.54) H5(1.27,-2.54) H6(2.54,-2.54) H7(3.81,-2.54) J1(-3.81,-3.81) J2(-2.54,-3.81) J3(-1.27,-3.81) J4(0,-3.81) J5(1.27,-3.81) J6(2.54,-3.81) J7(3.81,-3.81) K1(-3.81,-5.08) K2(-2.54,-5.08) K3(-1.27,-5.08) K4(0,-5.08) K5(1.27,-5.08) K6(2.54,-5.08) K7(3.81,-5.08) L1(-3.81,-6.35) L2(-2.54,-6.35) L3(-1.27,-6.35) L4(0,-6.35) L5(1.27,-6.35) L6(2.54,-6.35) L7(3.81,-6.35)
Top Overlay:
  lines w0.05: -4,7.5 -4.5,7 -4.5,6.5 ; -4.5,6.5 -3.5,7.5 -4.5,6.5 ; -4.5,-7.5 4.5,-7.5 4.5,7.5 -4.5,7.5 -4.5,-7.5
  lines w0.25: -5.5,7.635 ccw(c-5,7.635) -5,7.135 ccw(c-5,7.635) -4.5,7.635 ccw(c-5,7.635) -5,8.135 ccw(c-5,7.635) -5.5,7.635
Mechanical 17:
  text "LTM4644IY" at 7.62,4.826 h0.64

## MLP8_THEM1 [mil] "MLP8_THEM1"
pads (9):
  oval 25x45 smd: 1(75,157) 2(25,157) 3(-25,157) 4(-75,157) 5(-75,-157) 6(-25,-157) 7(25,-157) 8(75,-157)
  rect 188.98x183.07 smd: 9(0,0)
Top Overlay:
  lines w5: -100,-160 -120,-160 -120,160 -100,160 ; 100,-160 120,-160 120,160 100,160
  lines w6: 111.81,177.66 cw(c121.81,177.66) 121.81,187.66 cw(c121.81,177.66) 131.81,177.66 cw(c121.81,177.66) 121.81,167.66 cw(c121.81,177.66) 111.81,177.66
Mechanical 17:
  text "MT25QU256ABA1EW9-0SIT" at -100,-60 h25
  text ".Designator" at -10,-10 h31.1

## mlp8_them1_2 [mil]
pads (9):
  oval 25x45 smd: 1(75,157) 2(25,157) 3(-25,157) 4(-75,157) 5(-75,-157) 6(-25,-157) 7(25,-157) 8(75,-157)
  rect 188.98x183.07 smd: 9(0,0)
Top Overlay:
  lines w5: -100,-160 -120,-160 -120,160 -100,160 ; 100,-160 120,-160 120,160 100,160
  lines w6: 111.81,177.66 cw(c121.81,177.66) 121.81,187.66 cw(c121.81,177.66) 131.81,177.66 cw(c121.81,177.66) 121.81,167.66 cw(c121.81,177.66) 111.81,177.66
Mechanical 17:
  text "MT25QU256ABA1EW9-0SIT" at -100,-60 h25
  text ".Designator" at -10,-10 h31.1

## N25Q128A11ESE40F [mm] "N25Q128A11ESE40F"
pads (8):
  rect 2.3x0.48 smd: 1(-3.9,1.905) 2(-3.9,0.635) 3(-3.9,-0.635) 4(-3.9,-1.905) 5(3.9,-1.905) 6(3.9,-0.635) 7(3.9,0.635) 8(3.9,1.905)
Top Overlay:
  lines w0.025: -2.75,-2.75 2.75,-2.75 2.75,2.75 -2.75,2.75 -2.75,-2.75
Mechanical 14:
  text "8" at 3.697,1.905 h0.51
  text "5" at 3.697,-1.905 h0.51
  text "2" at -4.103,0.635 h0.51
  text "6" at 3.697,-0.635 h0.51
  text "7" at 3.697,0.635 h0.51
  text "3" at -4.103,-0.635 h0.51
  text "1" at -4.103,1.905 h0.51
  text "4" at -4.103,-1.905 h0.51
Mechanical 16:
  pour cut-out: -5.055,-2.75 -5.055,2.75 5.055,2.75 5.055,-2.75
  region: -5.055,-2.75 -5.055,2.75 5.055,2.75 5.055,-2.75
  lines w0.025: -2.75,-2.75 2.75,-2.75 2.75,2.75 -2.75,2.75 -2.75,-2.75
Mechanical 20:
  text ".Designator" at -0.144,0 h0.13
3D body: height 3.81, standoff 0, extent -5.055,-2.75 5.055,2.75

## NFM21CC [mm] "NFM21CC"
pads (3):
  rect 0.6x1.3 smd: 1(-1.15,0) 3(1.15,0)
  rect 0.9x1.8 smd: 2(0,0)
Top Overlay:
  lines w0.15: -1.6,-0.85 -1.6,0.85 -0.6,0.85 -0.6,1.05 0.6,1.05 0.6,0.85 1.6,0.85 1.6,-0.85 0.6,-0.85 0.6,-1.05 -0.6,-1.05 -0.6,-0.85 -1.6,-0.85
Mechanical 14:
  text "3" at 1.15,-0.203 h0.25
  text "1" at -1.15,-0.203 h0.25
  text "2" at 0,-0.203 h0.25
Mechanical 16:
  region: -1.75,0.85 -1.75,-0.85 1.75,-0.85 1.75,0.85
Mechanical 20:
  text "NFM21PC225B0J3" at -0.5,1.53 h0.25
3D body: height 3.81, standoff 0, extent -1.75,-0.85 1.75,0.85

## OSC-3225 [mm]
pads (4):
  rect 1.4x1.2 smd: 1(-1.1,-0.875) 2(1.1,-0.875) 3(1.1,0.875) 4(-1.1,0.875)
Top Overlay:
  lines w0.127: -2.029,-1.679 -2.029,1.651 2.032,1.651 2.032,0 2.032,-1.651 -2.029,-1.679
  lines w0.152: -2.286,-1.397 -2.286,-1.905 -1.778,-1.905
Mechanical 15:
  circle w0.254: c-1.088,-1.567 r0.127
  region: -1.486,-0.428 -1.45,-0.428 -1.45,-1.004 -1.486,-1.004
  region: -1.522,-0.428 -1.486,-0.428 -1.486,-1.004 -1.522,-1.004
  region: -1.558,-0.428 -1.522,-0.428 -1.522,-1.004 -1.558,-1.004
  region: -1.594,-0.464 -1.558,-0.464 -1.558,-1.004 -1.594,-1.004
  region: -1.63,-0.464 -1.594,-0.464 -1.594,-0.572 -1.63,-0.572
  region: -1.666,-0.5 -1.63,-0.5 -1.63,-0.608 -1.666,-0.608
  region: -1.702,-0.536 -1.666,-0.536 -1.666,-0.608 -1.702,-0.608
  region: -1.738,-0.536 -1.702,-0.536 -1.702,-0.608 -1.738,-0.608

## PCBComponent_1 - duplicate [mm]
pads (21):
  rect 0.279x0.85 smd: 1(-1,-1.475) 2(-0.5,-1.475) 3(0,-1.475) 4(0.5,-1.475) 5(1,-1.475) 6(1,1.475) 7(0.5,1.475) 8(0,1.475) 9(-0.5,1.475) 10(-1,1.475)
  rect 0.8x0.28 smd: 11(-1.5,-0.25) 11(-1.5,0.25) 11(1.5,-0.25) 11(1.5,0.25)
  rect 2.4x1.65 smd: 11(0,0)
  oct 0.025x0.025 smd: 11(0,0)
  round 0.559 hole 0.305: 12(-0.75,-0.5) 13(0.75,-0.5) 14(-0.75,0.5) 15(0.75,0.5) 16(0,0)
Top Overlay:
  lines w0.178: -1.007,-3.58 -1.007,-2.717 ; -2.25,-2.25 2.25,-2.25 2.25,2.25 -2.25,2.25 -2.25,-2.25 ; -1.821,-3.543 -1.275,-3.151 -1.821,-2.743 -1.821,-3.543
Mechanical 5:
  text "U97" at 1.231,-2.556 h0.64
Mechanical 13:
  text "118.11" at 3.899,-14.097 h0.91
  text "3" at 7.137,-11.557 h0.91
  text "118.11" at -14.897,-11.049 h0.91
  text "3" at -11.659,-8.509 h0.91
  text "19.69" at -13.741,-6.223 h0.91
  text "0.5" at -12.446,-3.683 h0.91
Mechanical 14:
  text "1" at -0.716,-1.5 h0.71
  text "7" at 0.785,1.5 h0.71
  text "9" at -0.216,1.5 h0.71
  text "2" at -0.216,-1.5 h0.71
  text "3" at 0.284,-1.5 h0.71
  text "5" at 1.284,-1.5 h0.71
  text "6" at 1.284,1.5 h0.71
  text "10" at -0.431,1.5 h0.71
  text "4" at 0.785,-1.5 h0.71
  text "8" at 0.284,1.5 h0.71
  text "13" at 1.319,-0.5 h0.71
  text "14" at -0.181,0.5 h0.71
  text "16" at 0.569,0 h0.71
  text "15" at 1.319,0.5 h0.71
  text "12" at -0.181,-0.5 h0.71
  text "11" at 0.569,0 h0.71
Mechanical 17:
  text ".Designator" at 0.152,0.042 h0.13

## QFN16 [mil] "QFN16"
pads (17):
  rect 44x12 smd: 1(-97,47.24) 2(-97,15.75) 3(-97,-15.75) 4(-97,-47.24) 9(97,-47.24) 10(97,-15.75) 11(97,15.75) 12(97,47.24)
  rect 12x44 smd: 5(-47.24,-97) 6(-15.75,-97) 7(15.75,-97) 8(47.24,-97) 13(47.24,97) 14(15.75,97) 15(-15.75,97) 16(-47.24,97)
  rect 130x130 smd: 17(0,0)
Top Overlay:
  circle w10: c-115,85 r5
  lines w5: -105,-60 -105,-75 -75,-105 -60,-105 ; -105,60 -105,70 -70,105 -60,105 ; 60,-105 75,-105 105,-75 105,-60 ; 60,105 70,105 105,70 105,60
Mechanical 17:
  text "MAX8556ETE+" at 13,-100 h20
  text ".Designator" at 6,-1.67 h5

## QFN64_9X9MM_B [mil] "QFN64_9X9MM_B"
pads (65):
  oval 40x12 smd: 1(-180.3,147.75) 2(-180.3,128.05) 3(-180.3,108.35) 4(-180.3,88.65) 5(-180.3,68.95) 6(-180.3,49.25) 7(-180.3,29.55) 8(-180.3,9.85) 9(-180.3,-9.85) 10(-180.3,-29.55) 11(-180.3,-49.25) 12(-180.3,-68.95) 13(-180.3,-88.65) 14(-180.3,-108.35) 15(-180.3,-128.05) 16(-180.3,-147.75) 33(180.3,-147.75) 34(180.3,-128.05) 35(180.3,-108.35) 36(180.3,-88.65) 37(180.3,-68.95) 38(180.3,-49.25) 39(180.3,-29.55) 40(180.3,-9.85) 41(180.3,9.85) 42(180.3,29.55) 43(180.3,49.25) 44(180.3,68.95) 45(180.3,88.65) 46(180.3,108.35) 47(180.3,128.05) 48(180.3,147.75)
  oval 12x40 smd: 17(-147.75,-180.3) 18(-128.05,-180.3) 19(-108.35,-180.3) 20(-88.65,-180.3) 21(-68.95,-180.3) 22(-49.25,-180.3) 23(-29.55,-180.3) 24(-9.85,-180.3) 25(9.85,-180.3) 26(29.55,-180.3) 27(49.25,-180.3) 28(68.95,-180.3) 29(88.65,-180.3) 30(108.35,-180.3) 31(128.05,-180.3) 32(147.75,-180.3) 49(147.75,180.3) 50(128.05,180.3) 51(108.35,180.3) 52(88.65,180.3) 53(68.95,180.3) 54(49.25,180.3) 55(29.55,180.3) 56(9.85,180.3) 57(-9.85,180.3) 58(-29.55,180.3) 59(-49.25,180.3) 60(-68.95,180.3) 61(-88.65,180.3) 62(-108.35,180.3) 63(-128.05,180.3) 64(-147.75,180.3)
  rect 290x290 smd: 65(0,0)
via 120,80 diameter 18 hole 10
via 120,0 diameter 18 hole 10
via 120,-80 diameter 18 hole 10
via 40,-80 diameter 18 hole 10
via -40,-80 diameter 18 hole 10
via -120,-80 diameter 18 hole 10
via -40,0 diameter 18 hole 10
via 40,0 diameter 18 hole 10
via 40,80 diameter 18 hole 10
via -40,80 diameter 18 hole 10
via -120,0 diameter 18 hole 10
via -120,80 diameter 18 hole 10
Top Overlay:
  lines w7: -190,-165 -190,-190 -165,-190 ; -190,165 -165,190 ; 165,-190 190,-190 190,-165 ; 165,190 190,190 190,165
  lines w10: -230,150 cw(c-220,150) -220,160 cw(c-220,150) -210,150 cw(c-220,150) -220,140 cw(c-220,150) -230,150
Top Paste:
  pour cut-out: 135,-135 75,-135 75,-75 135,-75
  pour cut-out: 65,-135 5,-135 5,-75 65,-75
  pour cut-out: 65,-65 5,-65 5,-5 65,-5
  pour cut-out: 135,-65 75,-65 75,-5 135,-5
  pour cut-out: 135,5 75,5 75,65 135,65
  pour cut-out: 65,5 5,5 5,65 65,65
  pour cut-out: 135,75 75,75 75,135 135,135
  pour cut-out: 65,75 5,75 5,135 65,135
  pour cut-out: -5,75 -65,75 -65,135 -5,135
  pour cut-out: -5,5 -65,5 -65,65 -5,65
  pour cut-out: -5,-65 -65,-65 -65,-5 -5,-5
  pour cut-out: -5,-135 -65,-135 -65,-75 -5,-75
  pour cut-out: -75,75 -135,75 -135,135 -75,135
  pour cut-out: -75,5 -135,5 -135,65 -75,65
  pour cut-out: -75,-65 -135,-65 -135,-5 -75,-5
  pour cut-out: -75,-135 -135,-135 -135,-75 -75,-75
Mechanical 17:
  text ".Designator" at 60,-21.67 h50

## R0402 [mil]
height 11.81
pads (2):
  round 20 smd: 1(-19.68,0) 2(19.68,0)
Top Overlay:
  lines w1.97: -35.43,-17.72 -35.43,17.72 35.43,17.72 35.43,-17.72 -35.43,-17.72
Mechanical 13:
  lines w3.94: -21.65,-11.81 21.65,-11.81 21.65,11.81 -21.65,11.81 -21.65,-11.81
Mechanical 15:
  lines w1.97: -35.43,-17.72 -35.43,17.72 35.43,17.72 35.43,-17.72 -35.43,-17.72
  lines w3.94: -9.84,0 9.84,0 ; 0,-9.84 0,9.84
3D body "R0402.STEP": height 13.78, standoff 0, extent -19.69,-9.84 19.69,9.84

## R0402_2 [mil]
pads (2):
  round 20 smd: 1(-19.68,0) 2(19.68,0)
Top Overlay:
  lines w1.97: -35.43,-17.72 35.43,-17.72 35.43,17.72 -35.43,17.72 -35.43,-17.72
Mechanical 13:
  lines w3.94: -21.65,-11.81 -21.65,11.81 21.65,11.81 21.65,-11.81 -21.65,-11.81
Mechanical 15:
  lines w1.97: -35.43,-17.72 35.43,-17.72 35.43,17.72 -35.43,17.72 -35.43,-17.72
  lines w3.94: -9.84,0 9.84,0 ; 0,-9.84 0,9.84
3D body "R0402.STEP": height 13.78, standoff 0, extent -19.68,-9.84 19.68,9.84